# Altium schematic symbol library Device_Library_Frych.SchLib: 4 symbols
Pins are listed as number, name and electrical type; pins without a type are passive.

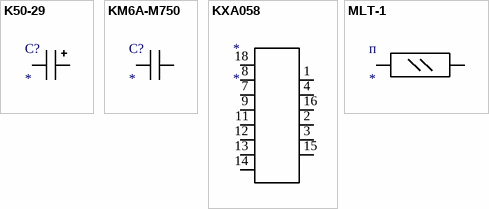
[diagram p0: symbols K50-29 to MLT-1]

## K50-29
designator C?
pins: 1, 2

## KM6A-M750
designator С?
pins: 1, 2

## KXA058
designator *
pins: 1, 2, 3, 4, 7, 8, 9, 11, 12, 13, 14, 15, 16, 18

## MLT-1
designator п
pins: 1 3, 2